# Altium footprint library KF142R5082P.PcbLib: 1 footprints
Each footprint in its own frame and in the unit in brackets; x right, y up, seen from the top. Pads: shape width x height; smd on the part's side, far side on the other; paste and mask are expansions set on the pad; w line width, h text height; cw(c..) or ccw(c..) is an arc to the next point about the centre after c.
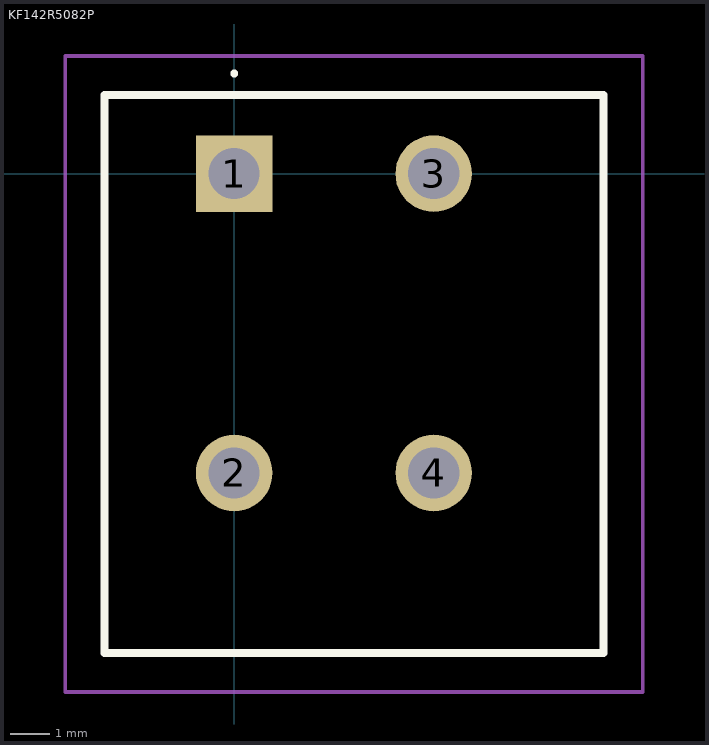
[diagram p0: the footprint, top view; thin cyan lines are the x and y axes]

## KF142R5082P [mm]
pads (4):
  rect 1.95x1.95 hole 1.3: 1(0,0)
  round 1.95 hole 1.3: 2(0,-7.62) 3(5.08,0) 4(5.08,-7.62)
Top Overlay:
  lines w0.1: 0,2.5 0,2.5 ; 0,2.5 ccw(c0,2.55) 0,2.6 ; 0,2.5 cw(c0,2.55) 0,2.6 ; 0,2.6 0,2.6
  lines w0.2: -3.3,-12.2 9.4,-12.2 9.4,2 -3.3,2 -3.3,-12.2
Mechanical 15:
  lines w0.1: -3.3,-12.2 9.4,-12.2 9.4,2 -3.3,2 -3.3,-12.2
Mechanical 20:
  lines w0.1: -4.3,-13.2 10.4,-13.2 10.4,3 -4.3,3 -4.3,-13.2